# EAGLE library part POWER (library AtoG)
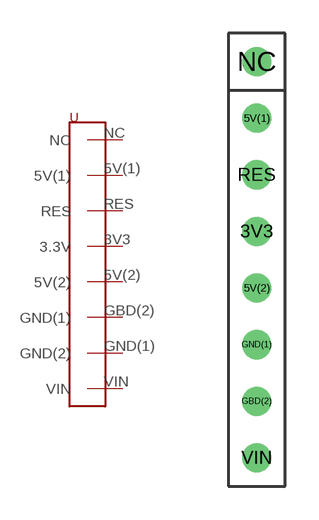
[diagram p3: symbol with the pads of POWER; footprint POWER]

Designator prefix -

## POWER  [POWER]
3V3  3.3V
5V(1)  5V(1)
5V(2)  5V(2)
GBD(2)  GND(1)
GND(1)  GND(2)
NC  NC
RES  RES
VIN  VIN

## Footprint POWER (pad centres in mm)
drill 0.8: 3V3 0,1.27; 5V(1) 0,6.35; 5V(2) 0,-1.27; GBD(2) 0,-6.35; GND(1) 0,-3.81; NC 0,8.89; RES 0,3.81; VIN 0,-8.89